# Altium footprint library 晶振.PcbLib: 5 footprints
Each footprint in its own frame and in the unit in brackets; x right, y up, seen from the top. Pads: shape width x height; smd on the part's side, far side on the other; paste and mask are expansions set on the pad; w line width, h text height; cw(c..) or ccw(c..) is an arc to the next point about the centre after c.
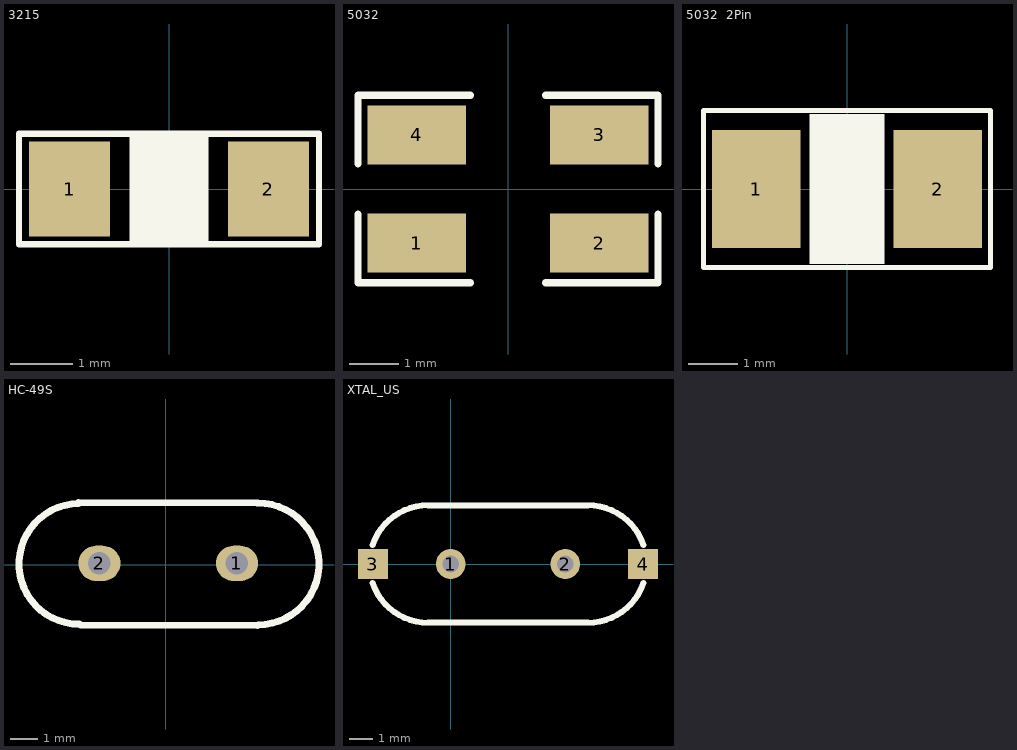
[diagram p0: the footprints below, top view; thin cyan lines are the x and y axes]

## 3215 [mm] "贴片 2Pin 3.2*1.5mm"
pads (2):
  rect 1.3x1.524 smd: 1(-1.6,0) 2(1.6,0)
Top Overlay:
  rectangle: -0.635,-0.889 0.635,0.889
  lines w0.1: -2.413,-0.889 2.413,-0.889 2.413,0.889 -2.413,0.889 -2.413,-0.889

## 5032 [mm] "贴片 4Pin 5.0*3.2mm"
pads (4):
  rect 2x1.2 smd: 1(-1.85,-1.1) 2(1.85,-1.1) 3(1.85,1.1) 4(-1.85,1.1)
Top Overlay:
  lines w0.15: -3.048,-0.508 -3.048,-1.905 -0.762,-1.905 ; -3.048,0.508 -3.048,1.905 -0.762,1.905 ; 0.762,-1.905 3.048,-1.905 3.048,-0.508 ; 0.762,1.905 3.048,1.905 3.048,0.508

## 5032  2Pin [mm]
pads (2):
  rect 1.8x2.4 smd: 1(-1.85,0) 2(1.85,0)
Top Overlay:
  rectangle: -0.762,-1.524 0.762,1.524
  lines w0.1: -2.921,-1.6 2.921,-1.6 2.921,1.6 -2.921,1.6 -2.921,-1.6

## HC-49S [mil]
pads (2):
  oval 60x50 hole 32: 1(100.91,2.17) 2(-94.09,2.17)
Top Overlay:
  lines w10: -123.9,88.19 129.41,87.4 ; -123.83,86.91 ccw(c-122.56,1.33) -122.56,-84.25 ; -120.98,-85.04 130.2,-85.83 ; 130.98,-85.04 ccw(c130.98,1.27) 130.98,87.59

## XTAL_US [mil]
pads (4):
  round 50 hole 28: 1(0,0) 2(192.13,0)
  rect 50x50 smd: 3(-130.32,0) 4(322.44,0)
Top Overlay:
  lines w10: -130.92,-31.85 ccw(c-37.79,0) -37.79,-98.42 ; -130.92,31.85 cw(c-37.79,0) -37.79,98.43 ; -38,98.42 229.92,98.43 cw(c229.92,0) 323.05,31.85 ; -37.8,-98.43 229.92,-98.42 ccw(c229.92,0) 323.05,-31.85